# EAGLE library part 692221030100 (library CONNECTORs)
USB - B USB 3.0, Super Speed Receptacle Connector 9 Position Through Hole, Right Angle, Horizontal
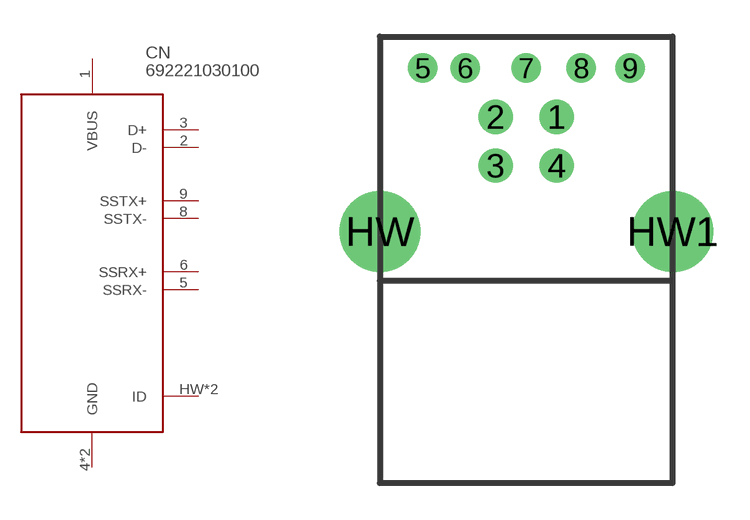
[diagram p24: symbol with the pads of 692221030100; footprint 692221030100]

Designator prefix CN

## 692221030100 (DIGIKEY: 732-3158-ND; HEIGHT: 12.3; PRICE_PER: 3.77; VALUE: USB3 TYPE B)  [692221030100]
1  VBUS
2  D-
3  D+
4  GND
5  SSRX-
6  SSRX+
7  GND
8  SSTX-
9  SSTX+
HW  ID
HW1  ID

## Footprint 692221030100 (pad centres in mm)
drill 0.9: 1 1.25,4.71; 2 -1.25,4.71; 3 -1.25,2.71; 4 1.25,2.71
drill 0.7: 5 -4.25,6.71; 6 -2.5,6.71; 7 0,6.71; 8 2.25,6.71; 9 4.25,6.71
drill 2.3: HW -6,0; HW1 6,0